# EAGLE library part UNIT_COCKET_NOVA_V1.2 (library UNIT_Biblioteca_Modulos)
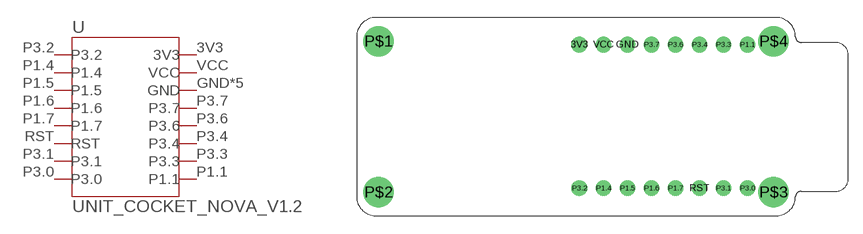
[diagram p14: symbol with the pads of COCKET_NOVA; footprint COCKET_NOVA]

Designator prefix U

## UNIT_COCKET_NOVA_V1.2  [COCKET_NOVA]
3V3  3V3
GND  GND
P1.1  P1.1
P1.4  P1.4
P1.5  P1.5
P1.6  P1.6
P1.7  P1.7
P3.0  P3.0
P3.1  P3.1
P3.2  P3.2
P3.3  P3.3
P3.4  P3.4
P3.6  P3.6
P3.7  P3.7
P$1  GND
P$2  GND
P$3  GND
P$4  GND
RST  RST
VCC  VCC

## Footprint COCKET_NOVA (pad centres in mm)
drill 1.11: 3V3 -2.448,7.641; GND 2.632,7.641; P1.1 15.332,7.641; P1.4 0.092,-7.579; P1.5 2.632,-7.579; P1.6 5.172,-7.579; P1.7 7.712,-7.579; P3.0 15.332,-7.579; P3.1 12.792,-7.579; P3.2 -2.448,-7.579; P3.3 12.792,7.641; P3.4 10.252,7.641; P3.6 7.712,7.641; P3.7 5.172,7.641; RST 10.252,-7.579; VCC 0.092,7.641
drill 2.2: P$1 -23.688,8; P$2 -23.688,-8; P$3 18.092,-8; P$4 18.092,8